# EAGLE library part 74_595_SHIFT_REGISTER (library RGB_LED)
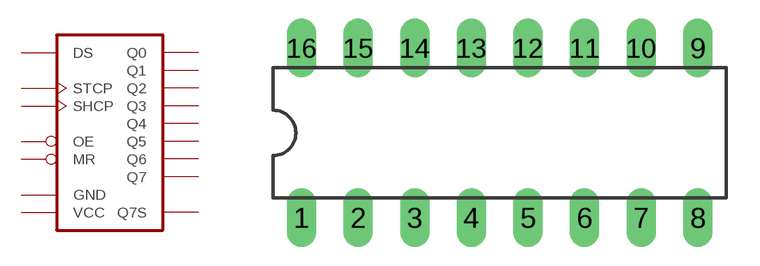
[diagram p0: symbol with the pads of DIL16; footprint DIL16]

Designator prefix -

## 74_595_SHIFT_REGISTER  [DIL16]
1  Q1  out
2  Q2  out
3  Q3  out
4  Q4  out
5  Q5  out
6  Q6  out
7  Q7  out
8  GND  pwr
9  Q7S  out
10  MR  in
11  SHCP  in
12  STCP  in
13  OE  in
14  DS  in
15  Q0  out
16  VCC  pwr

## Footprint DIL16 (pad centres in mm)
drill 0.813 long: 1 -8.89,-3.81; 2 -6.35,-3.81; 3 -3.81,-3.81; 4 -1.27,-3.81; 5 1.27,-3.81; 6 3.81,-3.81; 7 6.35,-3.81; 8 8.89,-3.81; 9 8.89,3.81; 10 6.35,3.81; 11 3.81,3.81; 12 1.27,3.81; 13 -1.27,3.81; 14 -3.81,3.81; 15 -6.35,3.81; 16 -8.89,3.81